# EAGLE library part 52271-2879 (library SamacSys_Parts)
Molex FFC/FPC SMT Series 1mm Pitch 28 Way 1 Row Right Angle SMT Female FPC Connector, Tin Bismuth Alloy Plated Contacts Source: Datasheet <https://www.molex.com/pdm_docs/sd/522712879_sd.pdf>
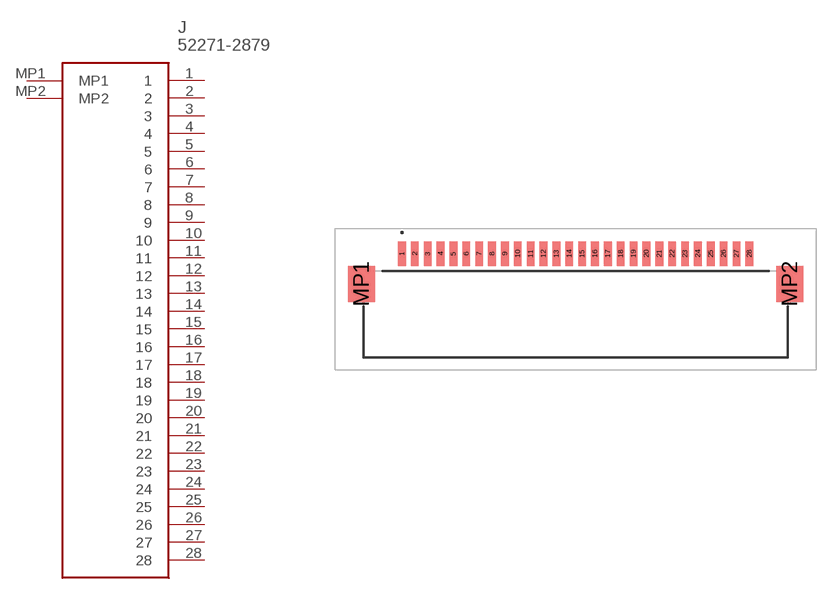
[diagram p5: symbol with the pads of 522712879; footprint 522712879]

Designator prefix J

## 52271-2879 (DESCRIPTION: Molex FFC/FPC SMT Series 1mm Pitch 28 Way 1 Row Right Angle SMT Female FPC Connector, Tin Bismuth Alloy Plated Contacts; HEIGHT: 3.2mm; MANUFACTURER_NAME: Molex; MANUFACTURER_PART_NUMBER: 52271-2879; MOUSER_PART_NUMBER: 538-52271-2879; MOUSER_PRICE-STOCK: https://www.mouser.co.uk/ProductDetail/Molex/52271-2879?qs=nP5hwMgPNFS%252BFAvmZdJi%2FA%3D%3D)  [522712879]
1  1
2  2
3  3
4  4
5  5
6  6
7  7
8  8
9  9
10  10
11  11
12  12
13  13
14  14
15  15
16  16
17  17
18  18
19  19
20  20
21  21
22  22
23  23
24  24
25  25
26  26
27  27
28  28
MP1  MP1
MP2  MP2

## Footprint 522712879 (pad centres in mm)
52271-2879-2
smd 0.6 x 1.9: 1 -13.5,4.7; 2 -12.5,4.7; 3 -11.5,4.7; 4 -10.5,4.7; 5 -9.5,4.7; 6 -8.5,4.7; 7 -7.5,4.7; 8 -6.5,4.7; 9 -5.5,4.7; 10 -4.5,4.7; 11 -3.5,4.7; 12 -2.5,4.7; 13 -1.5,4.7; 14 -0.5,4.7; 15 0.5,4.7; 16 1.5,4.7; 17 2.5,4.7; 18 3.5,4.7; 19 4.5,4.7; 20 5.5,4.7; 21 6.5,4.7; 22 7.5,4.7; 23 8.5,4.7; 24 9.5,4.7; 25 10.5,4.7; 26 11.5,4.7; 27 12.5,4.7; 28 13.5,4.7
smd 2.1 x 2.8: MP1 -16.65,2.35; MP2 16.65,2.35